# EAGLE library part P82B96 (library custom)
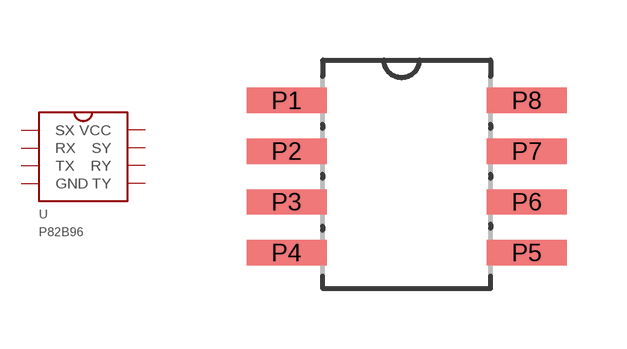
[diagram p7: symbol with the pads of SOIC8; footprint SOIC8]

Designator prefix -

## P82B96  [SOIC8]
P1  SX
P2  RX
P3  TX
P4  GND
P5  TY
P6  RY
P7  SY
P8  VCC

## Footprint SOIC8 (pad centres in mm)
smd 2 x 0.635: P1 -3.04,1.91; P2 -3.04,0.64; P3 -3.04,-0.63; P4 -3.04,-1.9; P5 2.967,-1.9; P6 2.967,-0.63; P7 2.967,0.64; P8 2.967,1.91